# Altium footprint library Passive.PcbLib: 7 footprints
Each footprint in its own frame and in the unit in brackets; x right, y up, seen from the top. Pads: shape width x height; smd on the part's side, far side on the other; paste and mask are expansions set on the pad; w line width, h text height; cw(c..) or ccw(c..) is an arc to the next point about the centre after c.
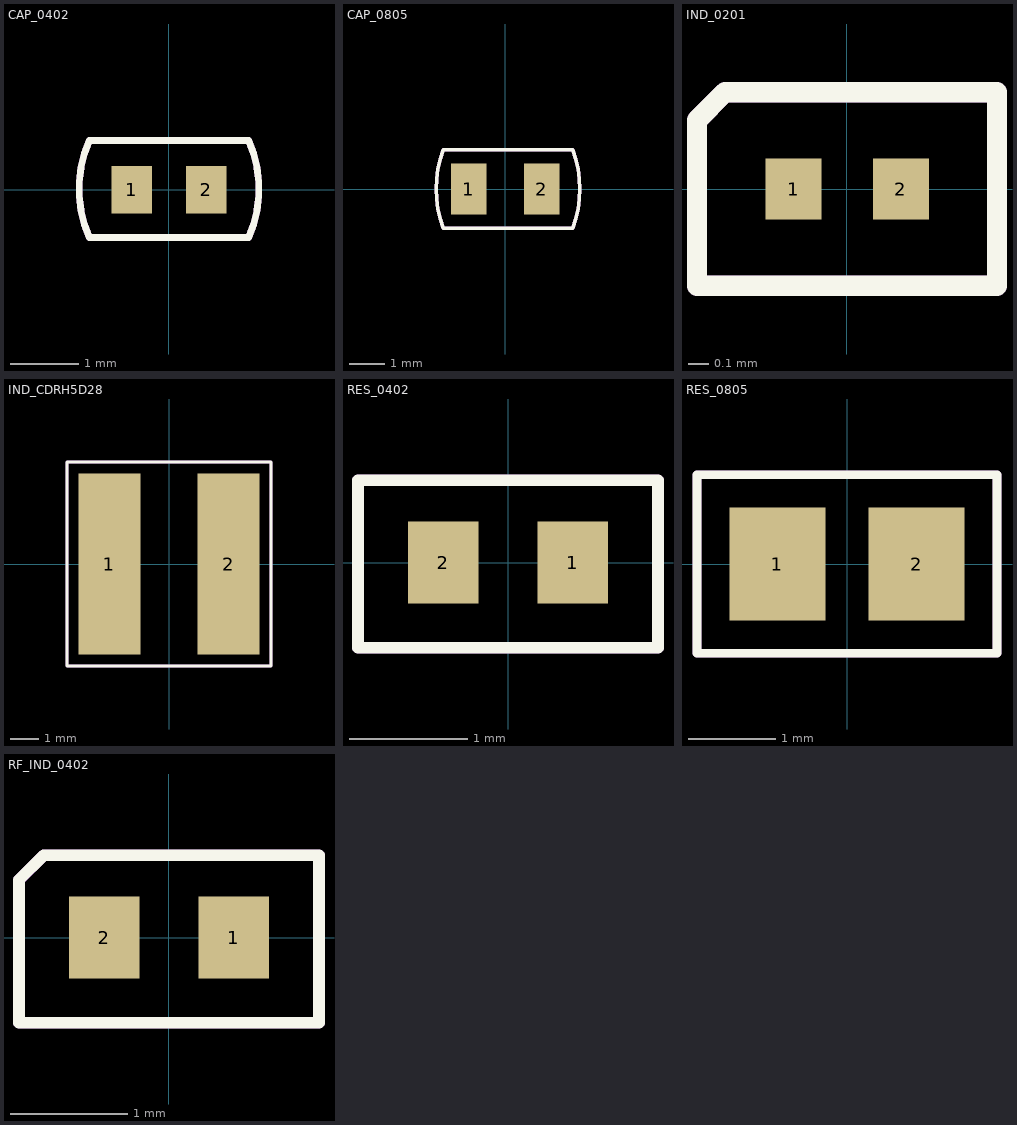
[diagram p0: the footprints below, top view; thin cyan lines are the x and y axes]

## CAP_0402 [mm] "CAP_0402"
pads (2):
  rect 0.6x0.7 smd: 1(-0.55,0) 2(0.55,0)
Top Overlay:
  lines w0.1: -1.175,-0.7 cw(c0.442,0.012) -1.175,0.725 1.175,0.725 cw(c-0.442,0.012) 1.175,-0.7 -1.175,-0.7
Mechanical 12:
  lines w0.1: -1.175,-0.7 cw(c0.442,0.012) -1.175,0.725 1.175,0.725 cw(c-0.442,0.012) 1.175,-0.7 -1.175,-0.7
  text ".Designator" at -1.1,-0.3 h0.6
3D body: height 0.5, standoff 0, extent -0.5,-0.25 0.5,0.25

## CAP_0805 [mm] "CAP_0805"
pads (2):
  rect 1x1.45 smd: 1(-1.025,0) 2(1.025,0)
Top Overlay:
  lines w0.1: -1.75,-1.1 cw(c1.175,0) -1.75,1.1 1.9,1.1 cw(c-1.025,0) 1.9,-1.1 -1.75,-1.1
Mechanical 12:
  lines w0.1: -1.75,-1.1 cw(c1.175,0) -1.75,1.1 1.9,1.1 cw(c-1.025,0) 1.9,-1.1 -1.75,-1.1
  text ".Designator" at -1.375,-0.375 h0.8
3D body: height 0.63, standoff -0.63, extent -0.925,-0.625 1.075,0.625

## IND_0201 [mm] "IND_0201"
pads (2):
  rect 0.275x0.3 smd: 1(-0.262,0) 2(0.266,0)
Top Overlay:
  lines w0.1: -0.737,-0.475 -0.737,0.337 -0.6,0.475 -0.237,0.475 0.738,0.475 0.738,-0.475 -0.137,-0.475 -0.737,-0.475
Mechanical 12:
  lines w0.1: -0.737,-0.475 -0.137,-0.475 0.738,-0.475 0.738,0.475 -0.237,0.475 -0.6,0.475 -0.737,0.337 -0.737,-0.475
  text ".Designator" at -0.525,-0.175 h0.3
3D body: height 0.33, standoff 0, extent -0.316,-0.165 0.32,0.165

## IND_CDRH5D28 [mm] "IND_CDRH5D28"
pads (2):
  rect 2.15x6.3 smd: 1(-2.075,0) 2(2.075,0)
Top Overlay:
  lines w0.1: -3.55,-3.55 -3.55,3.55 3.55,3.55 3.55,-3.55 -3.525,-3.55
Mechanical 12:
  lines w0.1: -3.55,-3.55 -3.55,3.55 3.55,3.55 3.55,-3.55 -3.525,-3.55
  text ".Designator" at -2.6,-0.3 h1.52
3D body: height 3, standoff 0, extent -3,-3 3,3

## RES_0402 [mm] "RES_0402"
pads (2):
  rect 0.6x0.7 smd: 1(0.55,0) 2(-0.55,0)
Top Overlay:
  lines w0.1: -1.275,-0.725 -1.275,0.7 1.275,0.7 1.275,-0.725 -1.275,-0.725
Mechanical 12:
  lines w0.1: -1.275,-0.725 -1.275,0.7 1.275,0.7 1.275,-0.725 -1.275,-0.725
  text ".Designator" at -1.1,-0.2 h0.6
3D body: height 0.55, standoff 0.25, extent -0.5,-0.25 0.5,0.25

## RES_0805 [mm] "RES_0805"
pads (2):
  rect 1.1x1.3 smd: 1(-0.8,0) 2(0.8,0)
Top Overlay:
  lines w0.1: -1.725,-1.025 1.725,-1.025 1.725,1.025 -1.725,1.025 -1.725,-1.025
Mechanical 12:
  lines w0.1: -1.725,-1.025 -1.725,1.025 1.725,1.025 1.725,-1.025 -1.725,-1.025
  text ".Designator" at -1.275,-0.3 h0.7
3D body: height 0.53, standoff -0.02, extent -1,-0.625 1,0.625

## RF_IND_0402 [mm] "RF_IND_0402"
pads (2):
  rect 0.6x0.7 smd: 1(0.55,0) 2(-0.55,0)
Top Overlay:
  lines w0.1: -1.275,-0.725 -1.275,0.49 -1.065,0.7 1.275,0.7 1.275,-0.725 -1.275,-0.725
Mechanical 12:
  lines w0.1: -1.275,-0.725 1.275,-0.725 1.275,0.7 -1.065,0.7 -1.275,0.49 -1.275,-0.725
  text ".Designator" at -1.1,-0.2 h0.6
3D body: height 0.55, standoff 0, extent -0.5,-0.25 0.5,0.25